# Altium schematic symbol library MOLEX - 49225-0821 - CONNECTOR, MICRO SD.SchLib: 1 symbol
Pins are listed as number, name and electrical type; pins without a type are passive.

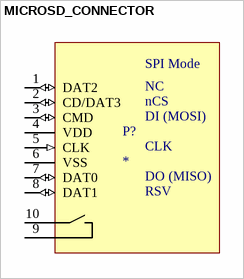
[diagram p0: symbol MICROSD_CONNECTOR]

## MICROSD_CONNECTOR
designator P?
MOLEX - 49225-0821 - CONNECTOR, MICRO SD, PUSH/PUSH, 8; pinout checked: yes; farnell: 1366700
footprint MICROSD_SLOT
footprint 49225-0821 (MICRO-SD slot)
pins: 1 DAT2 (io), 2 CD/DAT3 (io), 3 CMD (io), 4 VDD (power), 5 CLK (in), 6 VSS (power), 7 DAT0 (io), 8 DAT1 (io), 9, 10
text: SPI Mode; NC; nCS; DI (MOSI); DO (MISO); RSV